# Altium footprint library PCB - LED - 0603 1615 BICOLOR.PcbLib: 1 footprints
Each footprint in its own frame and in the unit in brackets; x right, y up, seen from the top. Pads: shape width x height; smd on the part's side, far side on the other; paste and mask are expansions set on the pad; w line width, h text height; cw(c..) or ccw(c..) is an arc to the next point about the centre after c.
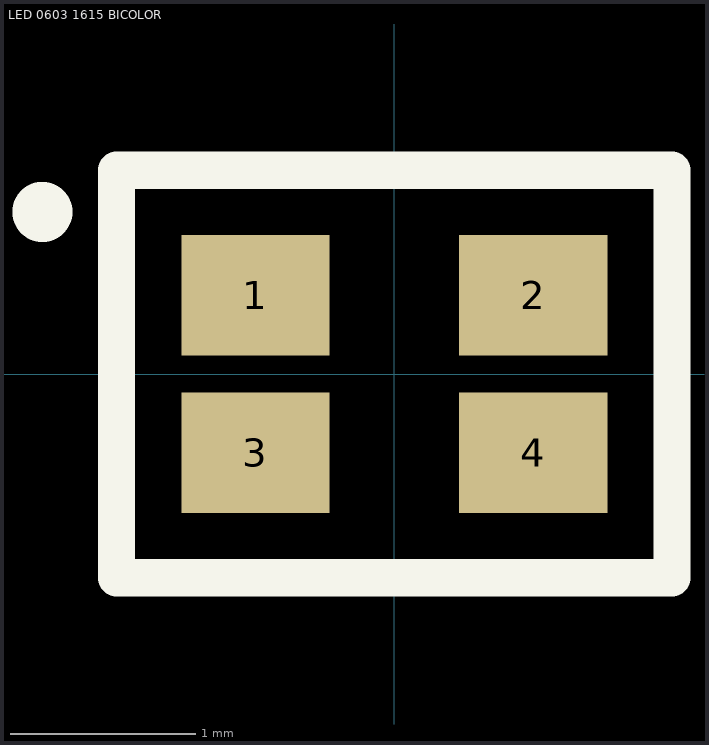
[diagram p0: the footprint, top view; thin cyan lines are the x and y axes]

## LED 0603 1615 BICOLOR [mm] "SMD SMT Light Emitting Diode 1.6*0.8*0.6MM"
height 0.6
pads (4):
  rect 0.8x0.65 smd mask+0.05: 1(-0.75,0.425) 2(0.75,0.425) 3(-0.75,-0.425) 4(0.75,-0.425)
Top Overlay:
  circle w0.254: c-1.9,0.875 r0.035
  lines w0.2: -1.5,-1.1 -1.5,1.1 1.5,1.1 1.5,-1.1 -1.5,-1.1
3D body "User Library-KPTB-1615SURKSGC.step": height 0.7, standoff -0.01, extent -0.8,-0.75 0.8,0.75